# Altium schematic symbol library Res330.SchLib: 1 symbol
Pins are listed as number, name and electrical type; pins without a type are passive.

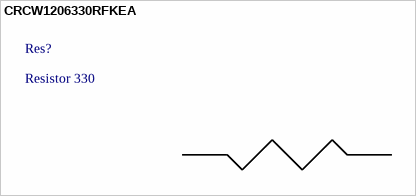
[diagram p0: symbol CRCW1206330RFKEA]

## CRCW1206330RFKEA
designator Res?, comment Resistor 330
Résistance CMS 330 Ohms  250 mW  size 1206 taille 3.2x1.6 mm série CRCW; Manufacturer: Mouser; Manufacturer Part Number: CRCW1206330RFKEA; Power: 250 mW; Tolerance: 1%; Temp./coefficient: 100 ppm/K; Published: 16/02/2017; Publisher: François Lefevre; Supplier: Mouser; Supplier Part Number: 71-CRCW1206-330-E3; Resistance: 330 Ohms
footprint RESC3116X06M (Chip Resistor, 2-Leads, Body 3,15x1,60mm, IPC Low Density)
pins: 1 I/O, 2 I/O